# EAGLE library part 17.126 (library cetronic)
CONMUTADOR BIPOLAR DE 2 POSICIONES
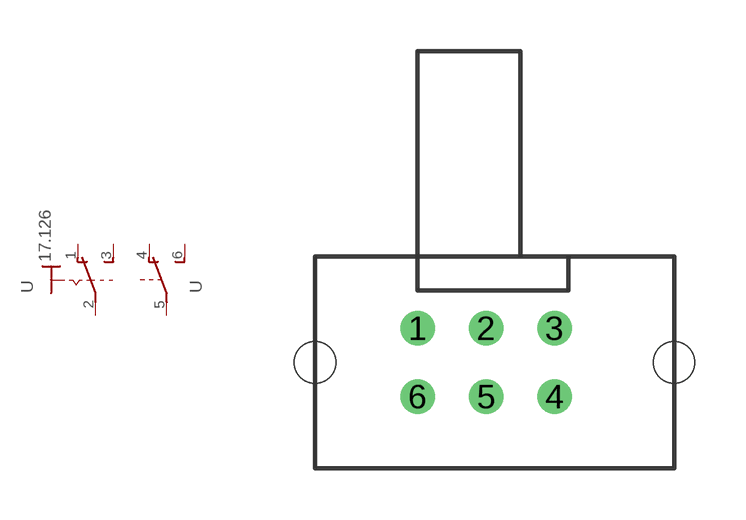
[diagram p0: symbol with the pads of 17.126; footprint 17.126]

Designator prefix -; gates G$1=KS-U- G$2=U2

## 17.126  [17.126]
1  G$1:O  pas
2  G$1:P  pas
3  G$1:S  pas
4  G$2:O  pas
5  G$2:P  pas
6  G$2:S  pas

## Footprint 17.126 (pad centres in mm)
drill 0.5: 1 3,4.1; 2 5,4.1; 3 7,4.1; 4 7,2.1; 5 5,2.1; 6 3,2.1
hole 1.2 at 0,3.1
hole 1.2 at 10.5,3.1